# Altium schematic symbol library 0031.8201.G.SchLib: 1 symbol
Pins are listed as number, name and electrical type; pins without a type are passive.

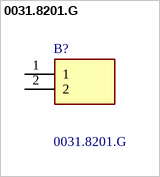
[diagram p0: symbol 0031.8201.G]

## 0031.8201.G
designator B?
OGN for THT 22.5mm; Manufacturer_Name: SCHURTER; Geometry.Height: 12.7mm; Manufacturer_Part_Number: 0031.8201.G; Mouser Part Number: 693-0031.8201.G; Mouser Price/Stock: https://www.mouser.co.uk/ProductDetail/Schurter/0031.8201.G?qs=53fxdJjyGHQ26HnfkWkpvg%3D%3D; Arrow Part Number: 0031.8201.G; Arrow Price/Stock: https://www.arrow.com/en/products/0031.8201.g/schurter?region=europe; Datasheet Link: https://www.schurter.com/en/datasheet/ogn
footprint 00318201G
pins: 1, 2